# Altium schematic symbol library TPS70933DBVR.SchLib: 1 symbol
Pins are listed as number, name and electrical type; pins without a type are passive.

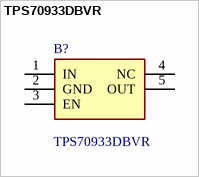
[diagram p0: symbol TPS70933DBVR]

## TPS70933DBVR
designator B?
150-mA 30-V ultra-low-Iq wide-input low-dropout (LDO) regulator with reverse current protection; Manufacturer_Name: Texas Instruments; Geometry.Height: 1.45mm; Mouser Part Number: 595-TPS70933DBVR; Mouser Price/Stock: https://www.mouser.co.uk/ProductDetail/Texas-Instruments/TPS70933DBVR?qs=Z9twEOuL%252B%2FJOaGO60BtvLA%3D%3D; Manufacturer_Part_Number: TPS70933DBVR; Datasheet Link: http://www.ti.com/lit/gpn/tps709
footprint SOT95P280X145-5N
pins: 1 IN, 2 GND, 3 EN, 4 NC, 5 OUT